# Altium schematic symbol library Discrete.SchLib: 9 symbols
Pins are listed as number, name and electrical type; pins without a type are passive.

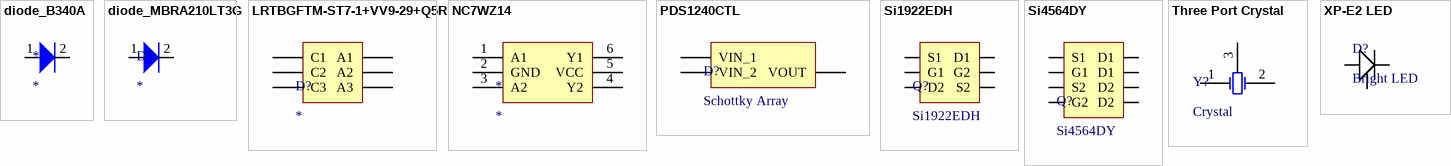
[diagram p0: symbols diode_B340A to XP-E2 LED]

## diode_B340A
designator *
footprint diode_B340A (Molded Diode, 2-Leads, Body 4.25x2.68mm, IPC Medium Density)
pins: 1 5, 2 6

## diode_MBRA210LT3G
designator D*
footprint diode_MBRA210LT3G (Molded Diode, 2-Leads, Body 4.31x2.60mm, IPC Medium Density)
pins: 1 5, 2 6

## LRTBGFTM-ST7-1+VV9-29+Q5R
designator D?
RGB LED
footprint 6-PLCC (6 Lead Package)
pins: 1 C1, 2 C2, 3 C3, 4 A3, 5 A2, 6 A1

## NC7WZ14
designator *
footprint NC7WZ14 (TinyLogic Dual Inverter with Schmitt trigger inputs, IPC Compliant)
pins: 1 A1, 2 GND, 3 A2, 4 Y2, 5 VCC, 6 Y1

## PDS1240CTL
designator D?, comment Schottky Array
Common Cathode, Two Diode, Schottky Diode Array
footprint PowerDI5 (Three terminal Schottky Diode Array)
pins: 1 VIN_1, 2 VIN_2, 3 VOUT

## Si1922EDH
designator Q?
Dual N-Channel 20 V (D-S) MOSFET
footprint TSOP65P210X90-6N (TSOP, 6-Leads, Body 2.00x1.25mm, Pitch 0.65mm, IPC Medium Density)
pins: 1 S1, 2 G1, 3 D2, 4 S2, 5 G2, 6 D1

## Si4564DY
designator Q?
N- and P-Channel 40V Mosfet
footprint SO-8 (8 Pin, Small Outline, 3.9x4.9mm)
pins: 1 S1, 2 G1, 3 S2, 4 G2, 5 D2, 6 D2, 7 D1, 8 D1

## Three Port Crystal
designator Y?, comment Crystal
Three Port Crystal Oscillator
footprint ABM10 (4 Terminal Crystal)
footprint 403C11E16M00000 (4 Pad Crystal Oscillator)
pins: 1 OSC1, 2 OSC2, 3 GND

## XP-E2 LED
designator D?, comment Bright LED
Cree XP-E2
footprint XP-E2 (Three terminal Cree LED)
pins: 1 CATHODE, 2 CATHODE, 3 GND